# EAGLE library part TA8210A?* (library linear)
20W BTL × 2ch Audio Power Amplifier Source: http://www.semicon.toshiba.co.jp/td/en/ASSP/Audio_ICs/en_20050517_TA8210ALQ_datasheet.pdf
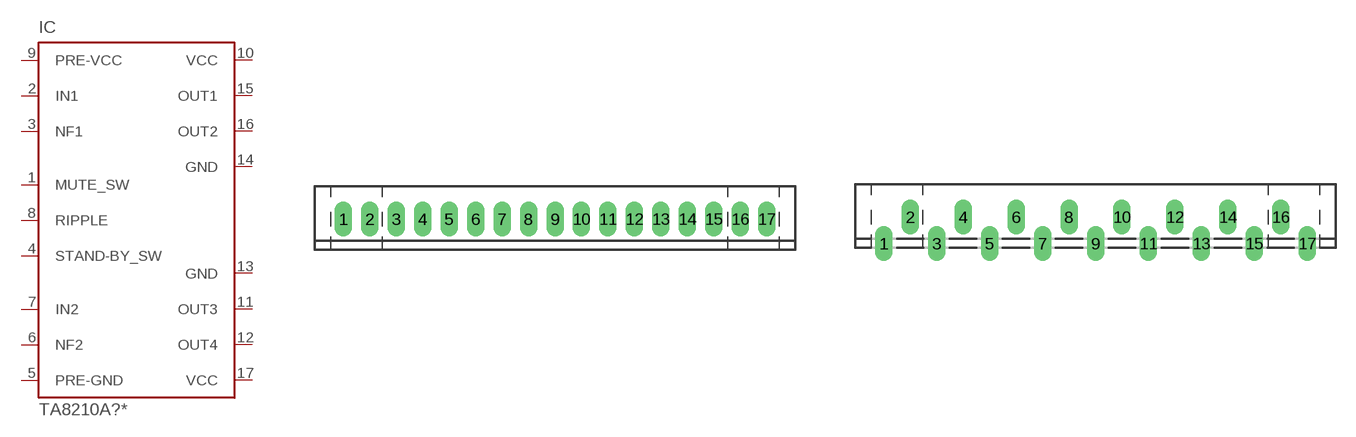
[diagram p243: symbol with the pads of HSIP17-P-2.00; footprints HSIP17-P-2.00, HZIP17-P-2.00]

Designator prefix IC

## TA8210AL, TA8210ALQ  [HSIP17-P-2.00]
1  MUTE_SW  in
2  IN1  in
3  NF1  in
4  STAND-BY_SW  in
5  PRE-GND  pwr
6  NF2  in
7  IN2  in
8  RIPPLE  in
9  PRE-VCC  pwr
10  VCC  pwr
11  OUT3  out
12  OUT4  out
13  GND  pwr
14  GND  pwr
15  OUT1  out
16  OUT2  out
17  VCC  pwr

## TA8210AH, TA8210AHQ  [HZIP17-P-2.00]
Pads as for HSIP17-P-2.00

## Footprint HSIP17-P-2.00 (pad centres in mm)
HSIP17-P-2.00 Source: http://www.semicon.toshiba.co.jp/td/en/ASSP/Audio_ICs/en_20050517_TA8210ALQ_datasheet.pdf
drill 0.8 pad 1.2 long: 1 -16,0; 2 -14,0; 3 -12,0; 4 -10,0; 5 -8,0; 6 -6,0; 7 -4,0; 8 -2,0; 9 0,0; 10 2,0; 11 4,0; 12 6,0; 13 8,0; 14 10,0; 15 12,0; 16 14,0; 17 16,0

## Footprint HZIP17-P-2.00 (pad centres in mm)
HZIP17-P-2.00 Source: http://www.semicon.toshiba.co.jp/td/en/ASSP/Audio_ICs/en_20050517_TA8210ALQ_datasheet.pdf
drill 0.8 pad 1.2 long: 1 -16,-2; 2 -14,0; 3 -12,-2; 4 -10,0; 5 -8,-2; 6 -6,0; 7 -4,-2; 8 -2,0; 9 0,-2; 10 2,0; 11 4,-2; 12 6,0; 13 8,-2; 14 10,0; 15 12,-2; 16 14,0; 17 16,-2